# Altium footprint library Cooler.PcbLib: 2 footprints
Each footprint in its own frame and in the unit in brackets; x right, y up, seen from the top. Pads: shape width x height; smd on the part's side, far side on the other; paste and mask are expansions set on the pad; w line width, h text height; cw(c..) or ccw(c..) is an arc to the next point about the centre after c.
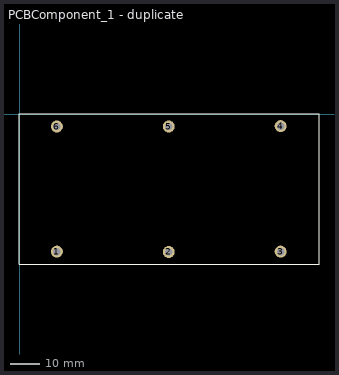
[diagram p0: the footprints below, top view; thin cyan lines are the x and y axes]

## PCBComponent_1 [mm]
3D body: height 6, standoff 5, extent 0,-43.18 30.48,0
3D body: height 25, standoff 5, extent 0,-1.27 30.48,0
3D body: height 25, standoff 5, extent 0,-43.18 30.48,-41.91
3D body: height 25, standoff 5, extent 0,-36.195 30.48,-34.925
3D body: height 25, standoff 5, extent 0,-29.21 30.48,-27.94
3D body: height 25, standoff 5, extent 0,-23.495 30.48,-22.225
3D body: height 25, standoff 5, extent 0,-17.78 30.48,-16.51
3D body: height 25, standoff 5, extent 0,-12.065 30.48,-10.795
3D body: height 25, standoff 5, extent 0,-6.35 30.48,-5.08

## PCBComponent_1 - duplicate [mm]
pads (6):
  round 4 hole 2.5: 1(12.446,-45.974) 2(49.911,-46.101) 3(87.376,-45.974) 4(87.376,-3.937) 5(49.911,-4.064) 6(12.446,-4.064)
Top Overlay:
  lines w0.254: -0.25,-50.25 100.25,-50.25 100.25,0.25 -0.25,0.25 -0.25,-50.25
3D body: height 8, standoff -2, extent 86.155,-5.16 88.595,-2.714
3D body: height 8, standoff -2, extent 86.155,-47.197 88.595,-44.751
3D body: height 8, standoff -2, extent 48.692,-47.324 51.132,-44.878
3D body: height 8, standoff -2, extent 11.225,-47.197 13.665,-44.751
3D body: height 8, standoff -2, extent 48.69,-5.287 51.13,-2.841
3D body: height 18, standoff 1, extent 0,-44.069 100.076,-42.037
3D body: height 18, standoff 1, extent 0,-38.1 100.076,-36.068
3D body: height 18, standoff 1, extent 0,-32.131 100.076,-30.099
3D body: height 18, standoff 1, extent 0,-14.097 100.076,-12.065
3D body: height 18, standoff 1, extent 0,-50.038 100.076,-48.006
3D body: height 18, standoff 1, extent 0,-8.128 100.076,-6.096
3D body: height 18, standoff 1, extent 0,-2.032 100.076,0
3D body: height 5, standoff 1, extent 0,-50.038 100.076,0
3D body: height 8, standoff -2, extent 11.225,-5.287 13.665,-2.841